# Altium footprint library lib-IC_Other_pcb.PcbLib: 6 footprints
Each footprint in its own frame and in the unit in brackets; x right, y up, seen from the top. Pads: shape width x height; smd on the part's side, far side on the other; paste and mask are expansions set on the pad; w line width, h text height; cw(c..) or ccw(c..) is an arc to the next point about the centre after c.
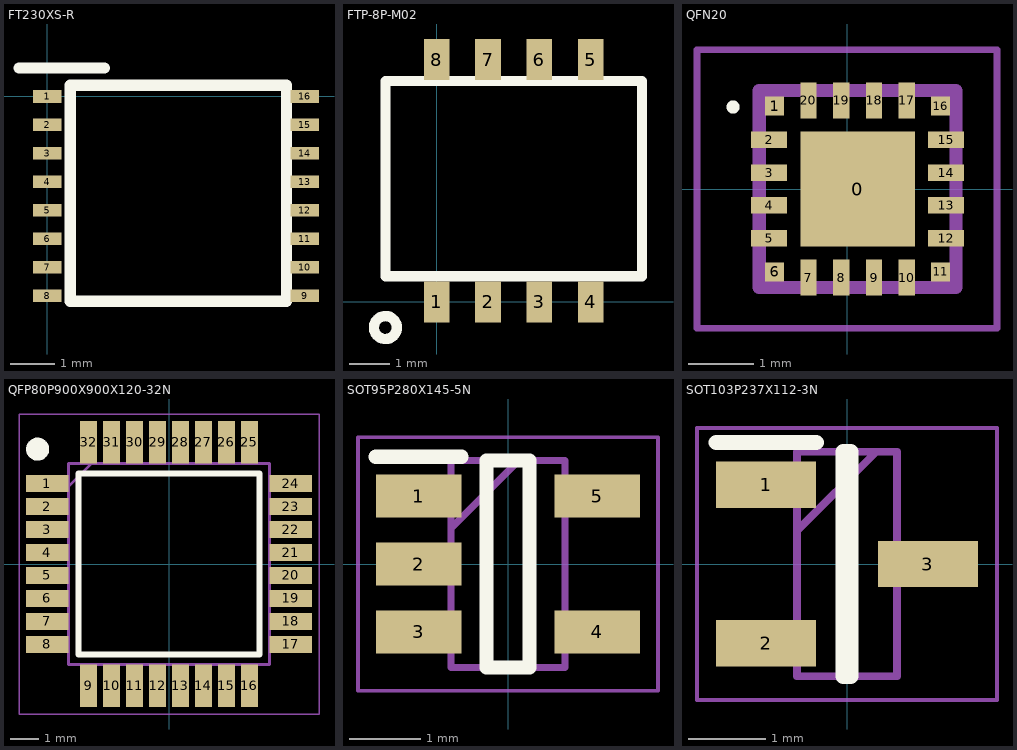
[diagram p0: the footprints below, top view; thin cyan lines are the x and y axes]

## FT230XS-R [mil] "FTDI FT230XS-R"
pads (16):
  rect 25x11 smd: 1(0,0) 2(0,-25) 3(0,-50) 4(0,-75) 5(0,-100) 6(0,-125) 7(0,-150) 8(0,-175) 9(226,-175) 10(226,-150) 11(226,-125) 12(226,-100) 13(226,-75) 14(226,-50) 15(226,-25) 16(226,0)
Top Overlay:
  lines w10: -25,25 50,25 ; 20,-180 210,-180 210,10 20,10 20,-180
3D body: height 60, standoff 0, extent 20,-180 210,10

## FTP-8P-M02 [mil] "Fujitsu SOP-8"
pads (8):
  rect 25x40 smd: 1(0,0) 2(50,0) 3(100,0) 4(150,0) 5(150,236) 6(100,236) 7(50,236) 8(0,236)
Top Overlay:
  circle w10: c-50,-25 r11.18
  lines w10: -50,25 -50,215 200,215 200,25 -50,25
3D body: height 61, standoff 0, extent -45,30 195,215

## QFN20 [mm] "SILICON LABS"
pads (21):
  rrect0% 1.75x1.75 smd mask+0.102: 0(0.162,0)
  rrect0% 0.29x0.29 smd: 1(-1.103,1.265) 6(-1.103,-1.265) 11(1.427,-1.265) 16(1.427,1.265)
  rect 0.55x0.25 smd: 2(-1.188,0.75) 3(-1.188,0.25) 4(-1.188,-0.25) 5(-1.188,-0.75) 12(1.513,-0.75) 13(1.513,-0.25) 14(1.513,0.25) 15(1.513,0.75)
  rect 0.25x0.55 smd: 7(-0.588,-1.35) 8(-0.088,-1.35) 9(0.412,-1.35) 10(0.912,-1.35) 17(0.912,1.35) 18(0.412,1.35) 19(-0.088,1.35) 20(-0.588,1.35)
Top Overlay:
  lines w0.1: -1.738,1.2 ccw(c-1.738,1.25) -1.738,1.3 ccw(c-1.738,1.25) -1.738,1.2
Mechanical 15:
  lines w0.2: -1.338,-1.5 1.662,-1.5 1.662,1.5 -1.338,1.5 -1.338,-1.5
Mechanical 20:
  lines w0.1: -2.288,-2.125 2.288,-2.125 2.288,2.125 -2.288,2.125 -2.288,-2.125
3D body: height 0.38, standoff 0, extent 1.5,0.6 1.5,0.6
3D body: height 0.38, standoff 0, extent -1.4,-1.5 1.7,1.5

## QFP80P900X900X120-32N [mm]
pads (32):
  rect 1.475x0.6 smd: 1(-4.238,2.8) 2(-4.238,2) 3(-4.238,1.2) 4(-4.238,0.4) 5(-4.238,-0.4) 6(-4.238,-1.2) 7(-4.238,-2) 8(-4.238,-2.8) 17(4.238,-2.8) 18(4.238,-2) 19(4.238,-1.2) 20(4.238,-0.4) 21(4.238,0.4) 22(4.238,1.2) 23(4.238,2) 24(4.238,2.8)
  rect 0.6x1.475 smd: 9(-2.8,-4.238) 10(-2,-4.238) 11(-1.2,-4.238) 12(-0.4,-4.238) 13(0.4,-4.238) 14(1.2,-4.238) 15(2,-4.238) 16(2.8,-4.238) 25(2.8,4.238) 26(2,4.238) 27(1.2,4.238) 28(0.4,4.238) 29(-0.4,4.238) 30(-1.2,4.238) 31(-2,4.238) 32(-2.8,4.238)
Top Overlay:
  circle w0.4: c-4.575,4 r0.2
  lines w0.2: -3.15,-3.15 3.15,-3.15 3.15,3.15 -3.15,3.15 -3.15,-3.15
Mechanical 15:
  lines w0.1: -3.5,2.7 -2.7,3.5 ; -3.5,-3.5 3.5,-3.5 3.5,3.5 -3.5,3.5 -3.5,-3.5
Mechanical 20:
  lines w0.05: -5.225,-5.225 5.225,-5.225 5.225,5.225 -5.225,5.225 -5.225,-5.225

## SOT95P280X145-5N [mm]
pads (5):
  rect 1.2x0.6 smd: 1(-1.25,0.95) 2(-1.25,0) 3(-1.25,-0.95) 4(1.25,-0.95) 5(1.25,0.95)
Top Overlay:
  lines w0.2: -1.85,1.5 -0.65,1.5 ; -0.3,-1.45 0.3,-1.45 0.3,1.45 -0.3,1.45 -0.3,-1.45
Mechanical 15:
  lines w0.1: -0.8,0.5 0.15,1.45 ; -0.8,-1.45 0.8,-1.45 0.8,1.45 -0.8,1.45 -0.8,-1.45
Mechanical 20:
  lines w0.05: -2.1,-1.775 2.1,-1.775 2.1,1.775 -2.1,1.775 -2.1,-1.775

## SOT103P237X112-3N [mm]
pads (3):
  rect 1.3x0.6 smd: 1(-1.05,1.03) 2(-1.05,-1.03) 3(1.05,0)
Top Overlay:
  lines w0.2: -1.7,1.58 -0.4,1.58 ; -0.05,-1.46 -0.05,1.46 0.05,1.46 0.05,-1.46 -0.05,-1.46
Mechanical 13:
  lines w0.1: -0.65,0.43 0.38,1.46 ; -0.65,-1.46 -0.65,1.46 0.65,1.46 0.65,-1.46 -0.65,-1.46
Mechanical 15:
  lines w0.05: -1.95,-1.77 -1.95,1.77 1.95,1.77 1.95,-1.77 -1.95,-1.77
3D body "STM809TWX6F.stp": height 1.12, standoff 0, extent -1.185,-1.46 1.185,1.46